# Altium integrated library interfaces.IntLib: 69 symbols
Pins are listed as number, name and electrical type; pins without a type are passive.

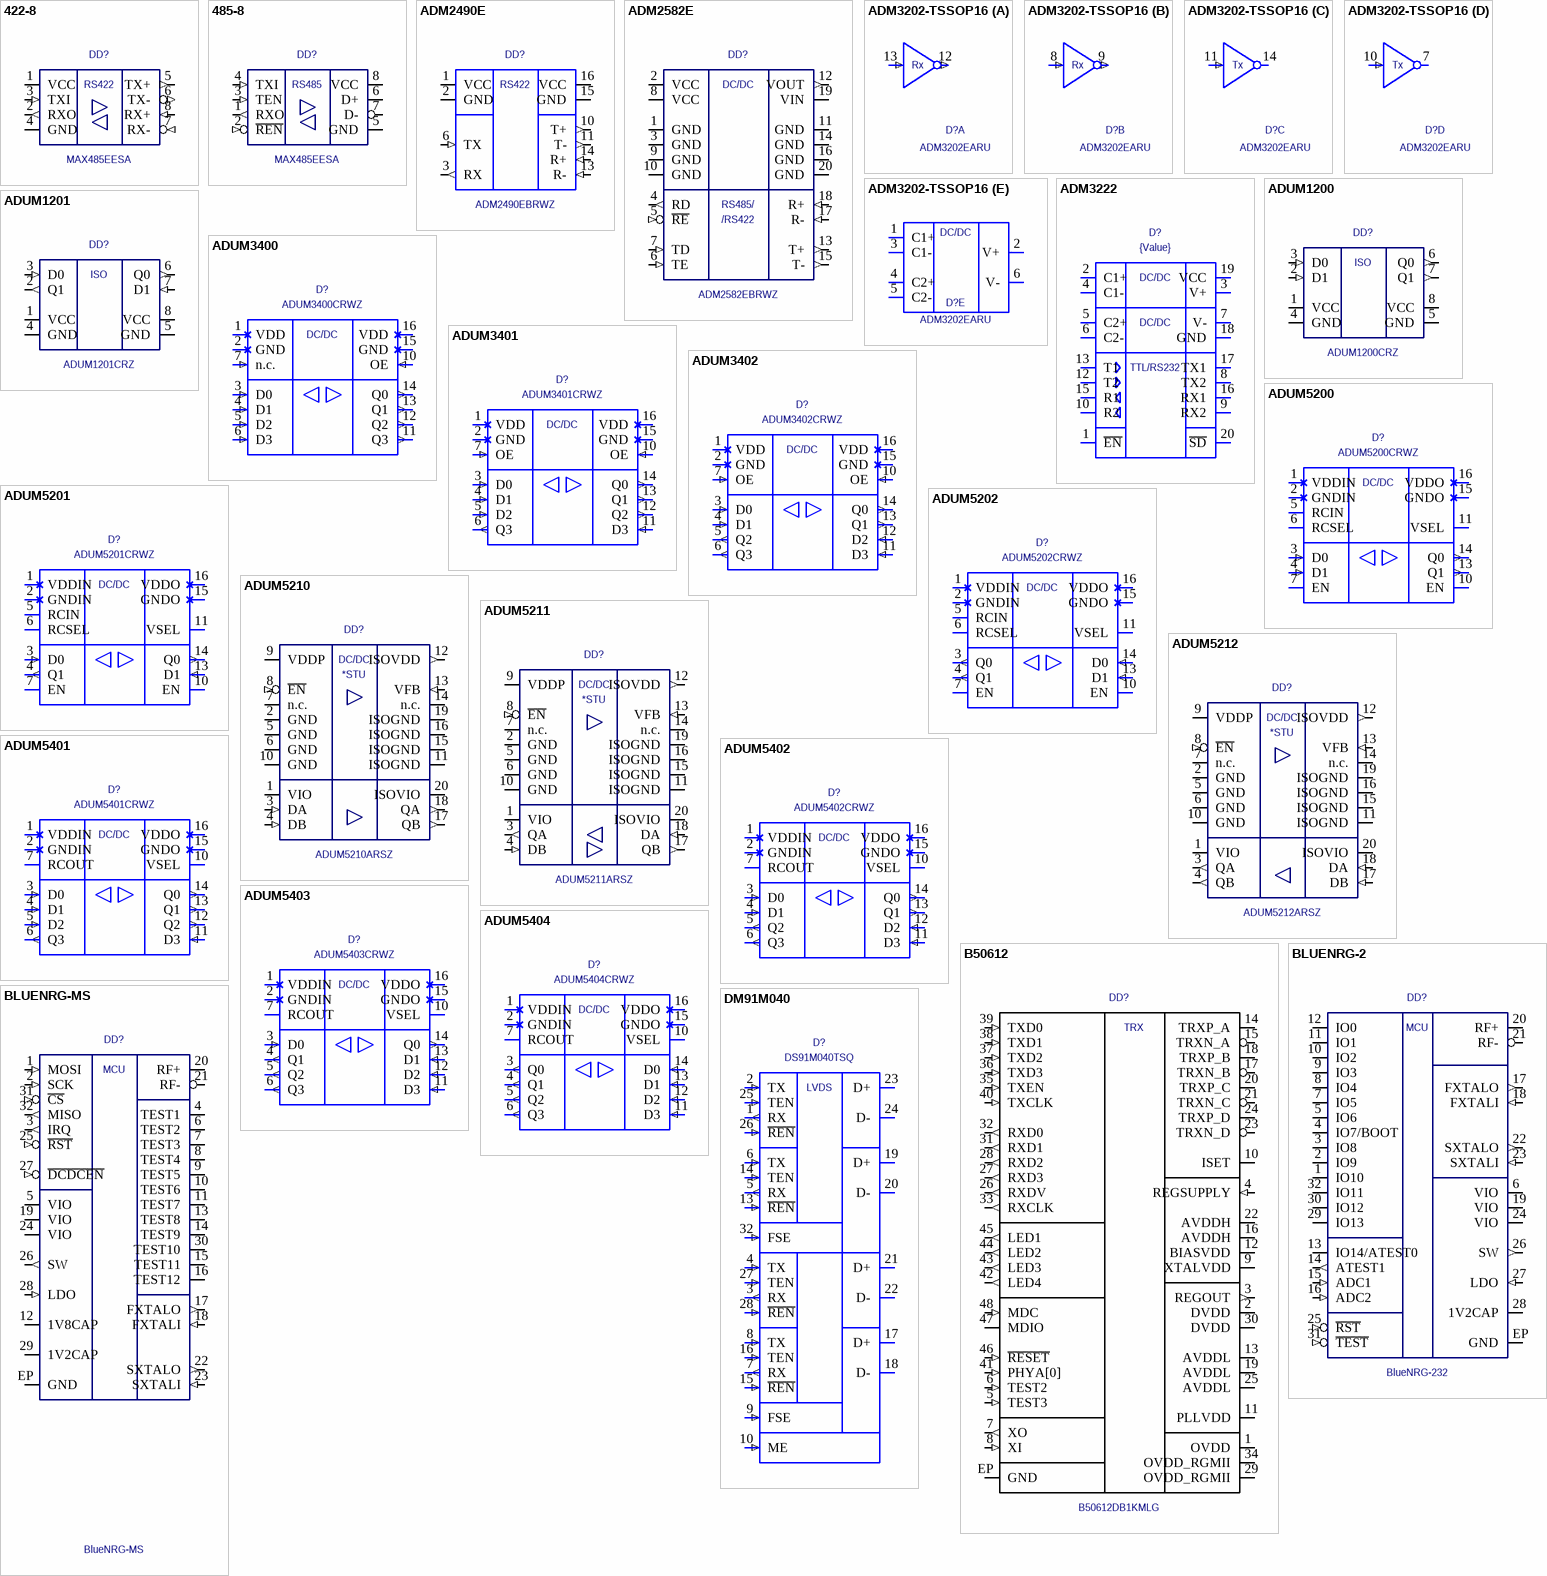
[diagram p0: symbols 422-8 to DM91M040]

## 422-8
designator DD?, comment MAX485EESA
RS422; Value: MAX485EESA
footprint SO8
footprint TSSOP8-4MM (0.65mm pitch)
pins: 1 VCC (power), 2 RXO (out), 3 TXI (in), 4 GND (power), 5 TX+ (out), 6 TX- (out), 7 RX- (in), 8 RX+ (in)

## 485-8
designator DD?, comment MAX485EESA
RS485; Value: MAX485EESA
footprint SO8
footprint TSSOP8-4MM (0.65mm pitch)
pins: 1 RXO (out), 2 ~{REN} (in), 3 TEN (in), 4 TXI (in), 5 GND (power), 6 D+ (io), 7 D- (io), 8 VCC (power)

## ADM2490E
designator DD?, comment ADM2490EBRWZ
ADM2490E; Value: ADM2490EBRWZ
footprint SO16W
pins: 1 VCC (power), 2 GND (power), 3 RX (out), 4 hidden, 5 hidden, 6 TX (in), 7 hidden, 8 hidden, 9 hidden, 10 T+ (out), 11 T- (out), 12 hidden, 13 R- (in), 14 R+ (in), 15 GND (power), 16 VCC (power)
text: RS422

## ADM2582E
designator DD?, comment ADM2582EBRWZ
RS485/422 isolated; Value: ADM2582EBRWZ
footprint SO20W
pins: 1 GND (power), 2 VCC (power), 3 GND (power), 4 RD (out), 5 ~{RE} (in), 6 TE (in), 7 TD (in), 8 VCC (power), 9 GND (power), 10 GND (power), 11 GND (power), 12 VOUT (out), 13 T+ (out), 14 GND (power), 15 T- (out), 16 GND (power), 17 R- (in), 18 R+ (in), 19 VIN (power), 20 GND (power)
text: DC/DC; RS485/; /RS422

## ADM3202-TSSOP16
designator D?  value ADM3202EARU  (hidden comment: ADM3202-TSSOP16)
footprint TSSOP16
pins on every part: 15 GND (power) hidden, 16 VCC (power) hidden
part A pins: 12 ROUT (out), 13 RIN (in)
part B pins: 8 RIN (in), 9 ROUT (out)
part C pins: 11 TIN (in), 14 TOUT (out)
part D pins: 7 TOUT (out), 10 TIN (in)
part E pins: 1 C1+ (io), 2 V+ (io), 3 C1- (io), 4 C2+ (io), 5 C2- (io), 6 V- (io)
part A text: Rx
part B text: Rx
part C text: Tx
part D text: Tx
part E text: DC/DC

## ADM3222
designator D?  value {Value}  (hidden comment: ADM3222)
footprint TSSOP20
pins: 1 ~{EN}, 2 C1+, 3 V+, 4 C1-, 5 C2+, 6 C2-, 7 V-, 8 TX2, 9 RX2, 10 R2, 11 hidden, 12 T2, 13 T1, 14 hidden, 15 R1, 16 RX1, 17 TX1, 18 GND, 19 VCC, 20 ~{SD}
text: DC/DC; TTL/RS232

## ADUM1200
designator DD?, comment ADUM1200CRZ
ADUM1200; Value: ADUM1200CRZ
footprint SO8
pins: 1 VCC (power), 2 D1 (in), 3 D0 (in), 4 GND (power), 5 GND (power), 6 Q0 (out), 7 Q1 (out), 8 VCC (power)
text: ISO

## ADUM1201
designator DD?, comment ADUM1201CRZ
ADUM1201; Value: ADUM1201CRZ
footprint SO8
pins: 1 VCC (power), 2 Q1 (out), 3 D0 (in), 4 GND (power), 5 GND (power), 6 Q0 (out), 7 D1 (in), 8 VCC (power)
text: ISO

## ADUM3400
designator D?  value ADUM3400CRWZ  (hidden comment: ADUM3400)
footprint SO16W
pins: 1 VDD (power), 2 GND (power), 3 D0 (in), 4 D1 (in), 5 D2 (in), 6 D3 (in), 7 n.c. (in), 8 hidden, 9 hidden, 10 OE (in), 11 Q3 (out), 12 Q2 (out), 13 Q1 (out), 14 Q0 (out), 15 GND (power), 16 VDD (power)
text: DC/DC

## ADUM3401
designator D?  value ADUM3401CRWZ  (hidden comment: ADUM3401)
footprint SO16W
pins: 1 VDD (power), 2 GND (power), 3 D0 (in), 4 D1 (in), 5 D2 (in), 6 Q3 (out), 7 OE (in), 8 hidden, 9 hidden, 10 OE (in), 11 D3 (in), 12 Q2 (out), 13 Q1 (out), 14 Q0 (out), 15 GND (power), 16 VDD (power)
text: DC/DC

## ADUM3402
designator D?  value ADUM3402CRWZ  (hidden comment: ADUM3402)
footprint SO16W
pins: 1 VDD (power), 2 GND (power), 3 D0 (in), 4 D1 (in), 5 Q2 (out), 6 Q3 (out), 7 OE (in), 8 hidden, 9 hidden, 10 OE (in), 11 D3 (in), 12 D2 (in), 13 Q1 (out), 14 Q0 (out), 15 GND (power), 16 VDD (power)
text: DC/DC

## ADUM5200
designator D?  value ADUM5200CRWZ  (hidden comment: ADUM5200)
footprint SO16W
pins: 1 VDDIN (power), 2 GNDIN (power), 3 D0 (in), 4 D1 (in), 5 RCIN, 6 RCSEL, 7 EN, 8 hidden, 9 hidden, 10 EN, 11 VSEL, 12 hidden, 13 Q1 (out), 14 Q0 (out), 15 GNDO (power), 16 VDDO (power)
text: DC/DC

## ADUM5201
designator D?  value ADUM5201CRWZ  (hidden comment: ADUM5201)
footprint SO16W
pins: 1 VDDIN (power), 2 GNDIN (power), 3 D0 (in), 4 Q1 (out), 5 RCIN, 6 RCSEL, 7 EN, 8 hidden, 9 hidden, 10 EN, 11 VSEL, 12 hidden, 13 D1 (in), 14 Q0 (out), 15 GNDO (power), 16 VDDO (power)
text: DC/DC

## ADUM5202
designator D?  value ADUM5202CRWZ  (hidden comment: ADUM5202)
footprint SO16W
pins: 1 VDDIN (power), 2 GNDIN (power), 3 Q0 (out), 4 Q1 (out), 5 RCIN, 6 RCSEL, 7 EN, 8 hidden, 9 hidden, 10 EN, 11 VSEL, 12 hidden, 13 D1 (in), 14 D0 (in), 15 GNDO (power), 16 VDDO (power)
text: DC/DC

## ADUM5210
designator DD?, comment ADUM5210ARSZ
2ch isolator + DC/DC; Value: ADUM5210ARSZ
footprint TSSOP20-8MM
pins: 1 VIO (power), 2 GND (power), 3 DA (in), 4 DB (in), 5 GND (power), 6 GND (power), 7 n.c. (power), 8 ~{EN} (in), 9 VDDP (power), 10 GND (power), 11 ISOGND (power), 12 ISOVDD (out), 13 VFB (in), 14 n.c. (power), 15 ISOGND (power), 16 ISOGND (power), 17 QB (out), 18 QA (out), 19 ISOGND (power), 20 ISOVIO (power)
text: DC/DC; *STU

## ADUM5211
designator DD?, comment ADUM5211ARSZ
2ch isolator + DC/DC; Value: ADUM5211ARSZ
footprint TSSOP20-8MM
pins: 1 VIO (power), 2 GND (power), 3 QA (out), 4 DB (in), 5 GND (power), 6 GND (power), 7 n.c. (power), 8 ~{EN} (in), 9 VDDP (power), 10 GND (power), 11 ISOGND (power), 12 ISOVDD (out), 13 VFB (in), 14 n.c. (power), 15 ISOGND (power), 16 ISOGND (power), 17 QB (out), 18 DA (in), 19 ISOGND (power), 20 ISOVIO (power)
text: DC/DC; *STU

## ADUM5212
designator DD?, comment ADUM5212ARSZ
2ch isolator + DC/DC; Value: ADUM5212ARSZ
footprint TSSOP20-8MM
pins: 1 VIO (power), 2 GND (power), 3 QA (out), 4 QB (out), 5 GND (power), 6 GND (power), 7 n.c. (power), 8 ~{EN} (in), 9 VDDP (power), 10 GND (power), 11 ISOGND (power), 12 ISOVDD (out), 13 VFB (in), 14 n.c. (power), 15 ISOGND (power), 16 ISOGND (power), 17 DB (in), 18 DA (in), 19 ISOGND (power), 20 ISOVIO (power)
text: DC/DC; *STU

## ADUM5401
designator D?  value ADUM5401CRWZ  (hidden comment: ADUM5401)
footprint SO16W
pins: 1 VDDIN (power), 2 GNDIN (power), 3 D0 (in), 4 D1 (in), 5 D2 (in), 6 Q3 (out), 7 RCOUT, 8 hidden, 9 hidden, 10 VSEL, 11 D3 (in), 12 Q2 (out), 13 Q1 (out), 14 Q0 (out), 15 GNDO (power), 16 VDDO (power)
text: DC/DC

## ADUM5402
designator D?  value ADUM5402CRWZ  (hidden comment: ADUM5402)
footprint SO16W
pins: 1 VDDIN (power), 2 GNDIN (power), 3 D0 (in), 4 D1 (in), 5 Q2 (out), 6 Q3 (out), 7 RCOUT, 8 hidden, 9 hidden, 10 VSEL, 11 D3 (in), 12 D2 (in), 13 Q1 (out), 14 Q0 (out), 15 GNDO (power), 16 VDDO (power)
text: DC/DC

## ADUM5403
designator D?  value ADUM5403CRWZ  (hidden comment: ADUM5403)
footprint SO16W
pins: 1 VDDIN (power), 2 GNDIN (power), 3 D0 (in), 4 Q1 (out), 5 Q2 (out), 6 Q3 (out), 7 RCOUT, 8 hidden, 9 hidden, 10 VSEL, 11 D3 (in), 12 D2 (in), 13 D1 (in), 14 Q0 (out), 15 GNDO (power), 16 VDDO (power)
text: DC/DC

## ADUM5404
designator D?  value ADUM5404CRWZ  (hidden comment: ADUM5404)
footprint SO16W
pins: 1 VDDIN (power), 2 GNDIN (power), 3 Q0 (out), 4 Q1 (out), 5 Q2 (out), 6 Q3 (out), 7 RCOUT, 8 hidden, 9 hidden, 10 VSEL, 11 D3 (in), 12 D2 (in), 13 D1 (in), 14 D0 (in), 15 GNDO (power), 16 VDDO (power)
text: DC/DC

## B50612
designator DD?, comment B50612DB1KMLG
LAN 1Gb PHY; Value: B50612DB1KMLG
footprint MLF48-7MM
pins: 1 OVDD (power), 2 DVDD (power), 3 REGOUT (out), 4 REGSUPPLY (in), 5 TEST3 (in), 6 TEST2 (in), 7 XO (out), 8 XI (in), 9 XTALVDD (power), 10 ISET, 11 PLLVDD (power), 12 BIASVDD (power), 13 AVDDL (power), 14 TRXP_A (io), 15 TRXN_A (io), 16 AVDDH (power), 17 TRXN_B (io), 18 TRXP_B (io), 19 AVDDL (power), 20 TRXP_C (io), 21 TRXN_C (io), 22 AVDDH (power), 23 TRXN_D (io), 24 TRXP_D (io), 25 AVDDL (power), 26 RXDV (out), 27 RXD3 (out), 28 RXD2 (out), 29 OVDD_RGMII (power), 30 DVDD (power), 31 RXD1 (out), 32 RXD0 (out), 33 RXCLK (out), 34 OVDD_RGMII (power), 35 TXEN (in), 36 TXD3 (in), 37 TXD2 (in), 38 TXD1 (in), 39 TXD0 (in), 40 TXCLK (in), 41 PHYA[0] (in), 42 LED4 (out), 43 LED3 (out), 44 LED2 (out), 45 LED1 (out), 46 ~{RESET} (in), 47 MDIO (io), 48 MDC (in), EP GND (power)
text: TRX

## BLUENRG-2
designator DD?, comment BlueNRG-232
BT processor; Value: BlueNRG-232
footprint MLF32
pins: 1 IO10 (io), 2 IO9 (io), 3 IO8 (io), 4 IO7/BOOT (io), 5 IO6 (io), 6 VIO, 7 IO5 (io), 8 IO4 (io), 9 IO3 (io), 10 IO2 (io), 11 IO1 (io), 12 IO0 (io), 13 IO14/ATEST0 (io), 14 ATEST1 (out), 15 ADC1 (in), 16 ADC2 (in), 17 FXTALO (out), 18 FXTALI (in), 19 VIO, 20 RF+ (io), 21 RF- (io), 22 SXTALO (out), 23 SXTALI (in), 24 VIO, 25 ~{RST} (in), 26 SW (out), 27 LDO (in), 28 1V2CAP, 29 IO13 (io), 30 IO12 (io), 31 ~{TEST} (in), 32 IO11 (io), EP GND (power)
text: MCU

## BLUENRG-MS
designator DD?, comment BlueNRG-MS
BT processor; Value: BlueNRG-MS
footprint MLF32
pins: 1 MOSI (in), 2 SCK (in), 3 IRQ (out), 4 TEST1 (io), 5 VIO, 6 TEST2 (io), 7 TEST3 (io), 8 TEST4 (io), 9 TEST5 (io), 10 TEST6 (io), 11 TEST7 (io), 12 1V8CAP, 13 TEST8 (io), 14 TEST9 (io), 15 TEST11 (io), 16 TEST12 (io), 17 FXTALO (out), 18 FXTALI (in), 19 VIO, 20 RF+ (io), 21 RF- (io), 22 SXTALO (out), 23 SXTALI (in), 24 VIO, 25 ~{RST} (in), 26 SW (out), 27 ~{DCDCEN} (in), 28 LDO (in), 29 1V2CAP, 30 TEST10 (io), 31 ~{CS} (in), 32 MISO (out), EP GND (power)
text: MCU

## DM91M040
designator D?  value DS91M040TSQ  (hidden comment: DM91M040)
footprint MLF32
pins: 1 RX (out), 2 TX (in), 3 RX (out), 4 TX (in), 5 RX (out), 6 TX (in), 7 RX (out), 8 TX (in), 9 FSE (in), 10 ME (in), 11 VCC (power) hidden, 12 VCC (power) hidden, 13 ~{REN} (in), 14 TEN (in), 15 ~{REN} (in), 16 TEN (in), 17 D+ (io), 18 D- (io), 19 D+ (io), 20 D- (io), 21 D+ (io), 22 D- (io), 23 D+ (io), 24 D- (io), 25 TEN (in), 26 ~{REN} (in), 27 TEN (in), 28 ~{REN} (in), 29 VCC (power) hidden, 30 VCC (power) hidden, 31 GND (power) hidden, 32 FSE (in), EP GND (power) hidden
text: LVDS

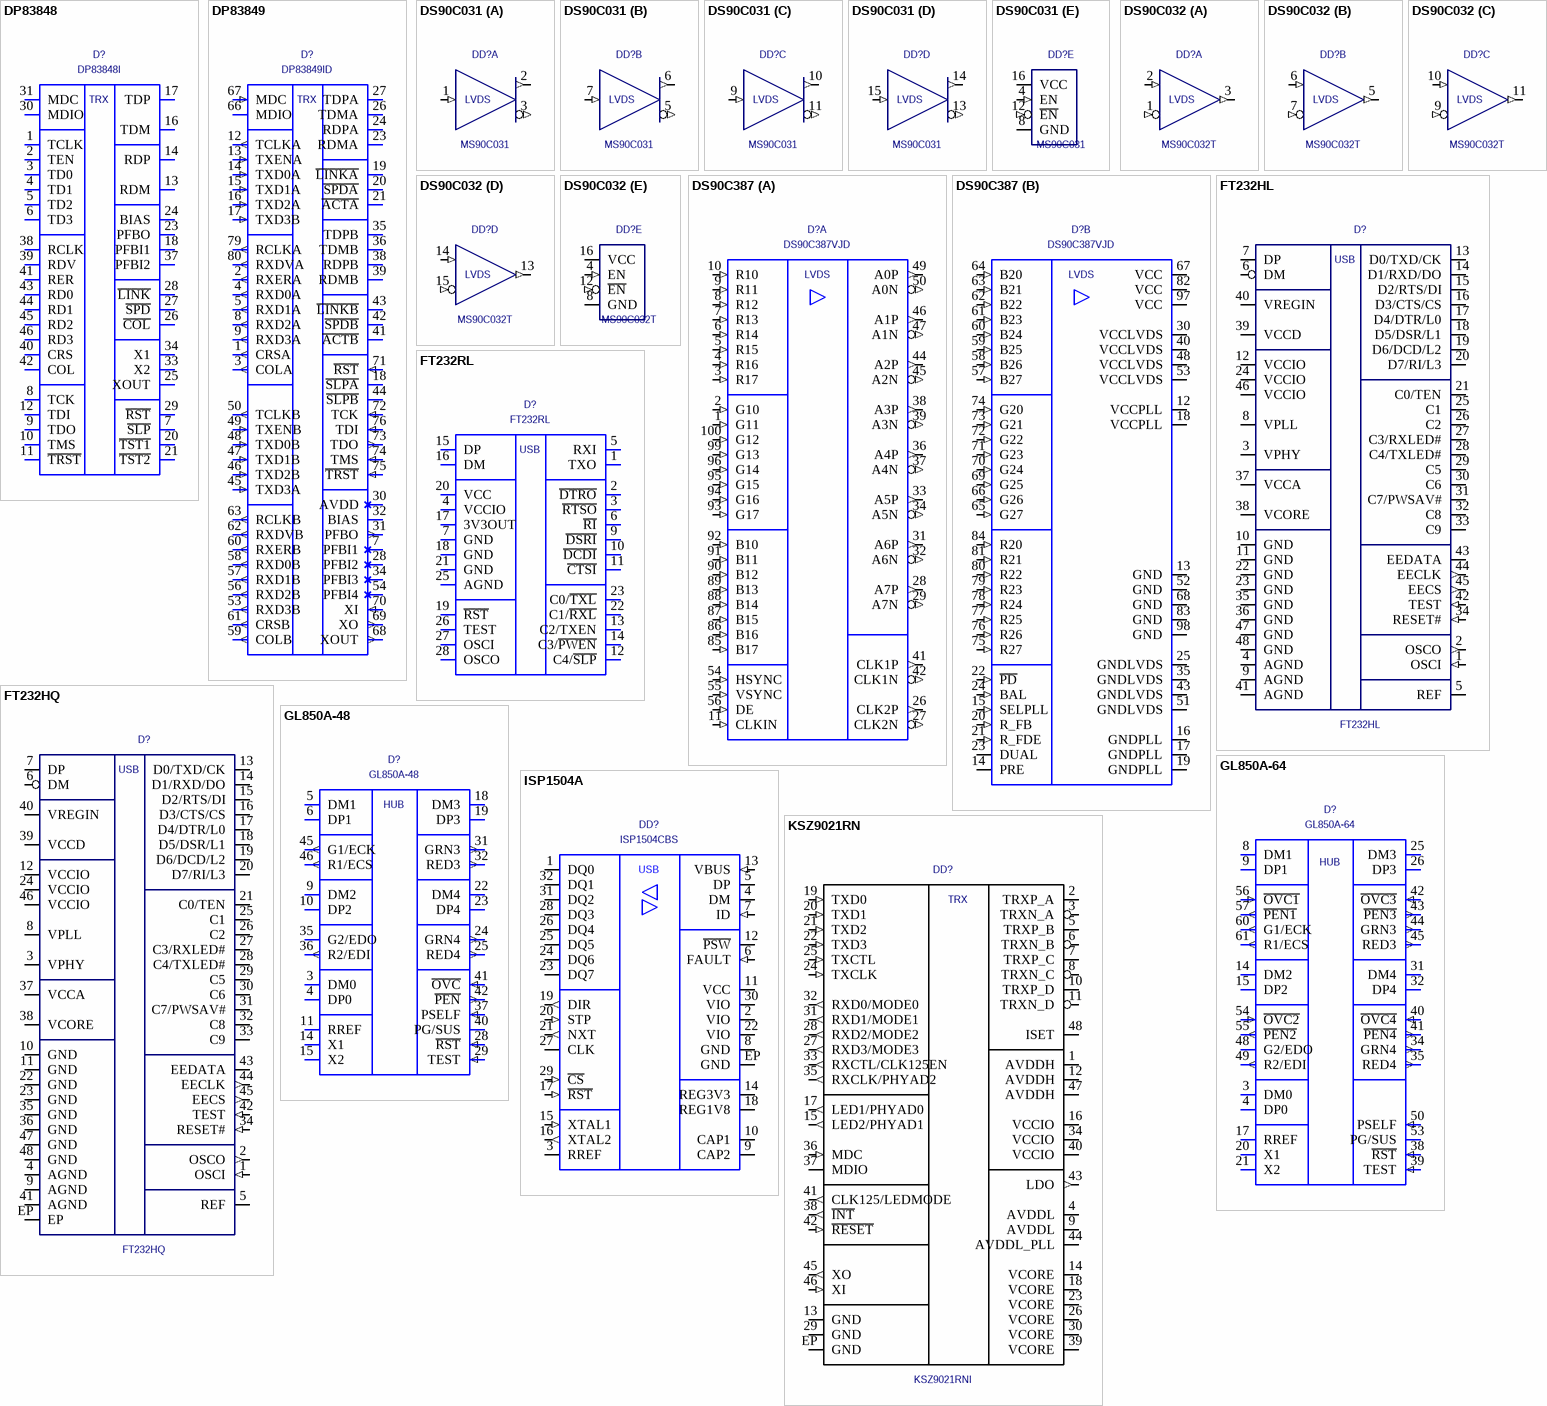
[diagram p1: symbols DP83848 to KSZ9021RN]

## DP83848
designator D?  value DP83848I  (hidden comment: DP83848)
footprint LQFP48
pins: 1 TCLK, 2 TEN, 3 TD0, 4 TD1, 5 TD2, 6 TD3, 7 ~{SLP}, 8 TCK, 9 TDO, 10 TMS, 11 ~{TRST}, 12 TDI, 13 RDM, 14 RDP, 15 GND (power) hidden, 16 TDM, 17 TDP, 18 PFBI1, 19 GND (power) hidden, 20 ~{TST1}, 21 ~{TST2}, 22 VCC (power) hidden, 23 PFBO, 24 BIAS, 25 XOUT, 26 ~{COL}, 27 ~{SPD}, 28 ~{LINK}, 29 ~{RST}, 30 MDIO, 31 MDC, 32 VCC (power) hidden, 33 X2, 34 X1, 35 GND (power) hidden, 36 GND (power) hidden, 37 PFBI2, 38 RCLK, 39 RDV, 40 CRS, 41 RER, 42 COL, 43 RD0, 44 RD1, 45 RD2, 46 RD3, 47 GND (power) hidden, 48 VCC (power) hidden
text: TRX

## DP83849
designator D?  value DP83849ID  (hidden comment: DP83849)
footprint TQFP80
pins: 1 CRSA (out), 2 RXERA (out), 3 COLA (out), 4 RXD0A (out), 5 RXD1A (out), 6 GND (power) hidden, 7 PFBI1 (power), 8 RXD2A (out), 9 RXD3A (out), 10 GND (power) hidden, 11 VCC (power) hidden, 12 TCLKA (out), 13 TXENA (in), 14 TXD0A (in), 15 TXD1A (in), 16 TXD2A (in), 17 TXD3B (in), 18 ~{SLPA} (io), 19 ~{LINKA} (io), 20 ~{SPDA} (io), 21 ~{ACTA} (io), 22 GND (power) hidden, 23 RDMA, 24 RDPA, 25 GND (power) hidden, 26 TDMA, 27 TDPA, 28 PFBI2 (power), 29 GND (power) hidden, 30 AVDD (power), 31 PFBO (out), 32 BIAS, 33 GND (power) hidden, 34 PFBI3 (power), 35 TDPB, 36 TDMB, 37 GND (power) hidden, 38 RDPB, 39 RDMB, 40 GND (power) hidden, 41 ~{ACTB} (io), 42 ~{SPDB} (io), 43 ~{LINKB} (io), 44 ~{SLPB} (io), 45 TXD3A (in), 46 TXD2B (in), 47 TXD1B (in), 48 TXD0B (in), 49 TXENB (in), 50 TCLKB (out), 51 VCC (power) hidden, 52 GND (power) hidden, 53 RXD3B (out), 54 PFBI4 (power), 55 GND (power) hidden, 56 RXD2B (out), 57 RXD1B (out), 58 RXD0B (out), 59 COLB (out), 60 RXERB (out), 61 CRSB (out), 62 RXDVB (out), 63 RCLKB (out), 64 GND (power) hidden, 65 VCC (power) hidden, 66 MDIO (io), 67 MDC (in), 68 XOUT (out), 69 XO (out), 70 XI (in), 71 ~{RST} (in), 72 TCK (in), 73 TDO (out), 74 TMS (in), 75 ~{TRST} (in), 76 TDI (in), 77 GND (power) hidden, 78 VCC (power) hidden, 79 RCLKA (out), 80 RXDVA (out)
text: TRX

## DS90C031
designator DD?, comment MS90C031
4xLVDS TX; Value: MS90C031
footprint SO16
footprint TSSOP16 (0.65mm pitch)
part A pins: 1 TX (in), 2 A (out), 3 B (out)
part B pins: 5 B (out), 6 A (out), 7 TX (in)
part C pins: 9 TX (in), 10 A (out), 11 B (out)
part D pins: 13 B (out), 14 A (out), 15 TX (in)
part E pins: 4 EN (in), 8 GND (power), 12 ~{EN} (in), 16 VCC (power)
part A text: LVDS
part B text: LVDS
part C text: LVDS
part D text: LVDS

## DS90C032
designator DD?, comment MS90C032T
4xLVDS RX; Value: MS90C032T
footprint SO16
footprint TSSOP16 (0.65mm pitch)
part A pins: 1 B (in), 2 A (in), 3 RX (out)
part B pins: 5 RX (out), 6 A (in), 7 B (in)
part C pins: 9 B (in), 10 A (in), 11 RX (out)
part D pins: 13 RX (out), 14 A (in), 15 B (in)
part E pins: 4 EN (in), 8 GND (power), 12 ~{EN} (in), 16 VCC (power)
part A text: LVDS
part B text: LVDS
part C text: LVDS
part D text: LVDS

## DS90C387
designator D?, comment DS90C387VJD
LVDS video transmitter; Value: DS90C387VJD
footprint TQFP100
part A pins: 1 G11 (in) "???", 2 G10 (in), 3 R17 (in), 4 R16 (in), 5 R15 (in), 6 R14 (in), 7 R13 (in), 8 R12 (in), 9 R11 (in), 10 R10 (in), 11 CLKIN (in), 26 CLK2P (out), 27 CLK2N (out), 28 A7P (out), 29 A7N (out), 31 A6P (out), 32 A6N (out), 33 A5P (out), 34 A5N (out), 36 A4P (out), 37 A4N (out), 38 A3P (out), 39 A3N (out), 41 CLK1P (out), 42 CLK1N (out), 44 A2P (out), 45 A2N (out), 46 A1P (out), 47 A1N (out), 49 A0P (out), 50 A0N (out), 54 HSYNC (in), 55 VSYNC (in), 56 DE (in), 85 B17 (in), 86 B16 (in), 87 B15 (in), 88 B14 (in), 89 B13 (in), 90 B12 (in), 91 B11 (in), 92 B10 (in), 93 G17 (in), 94 G16 (in), 95 G15 (in), 96 G14 (in), 99 G13 (in), 100 G12 (in)
part B pins: 12 VCCPLL (power) "+3.3V", 13 GND (power), 14 PRE "Pull-up resistor for preemphasis control", 15 SELPLL (in) "'=VCC", 16 GNDPLL (power), 17 GNDPLL (power), 18 VCCPLL (power) "+3.3V", 19 GNDPLL (power), 20 R_FB (in) "CLKIN polarity selector", 21 R_FDE (in) "DE polarity selector", 22 ~{PD} (in) "Power down (low)", 23 DUAL "0, 1 or ?", 24 BAL (in) "DC balanced code selector", 25 GNDLVDS (power), 30 VCCLVDS (power) "+3.3V", 35 GNDLVDS (power), 40 VCCLVDS (power) "+3.3V", 43 GNDLVDS (power), 48 VCCLVDS (power) "+3.3V", 51 GNDLVDS (power), 52 GND (power), 53 VCCLVDS (power) "+3.3V", 57 B27 (in), 58 B26 (in), 59 B25 (in), 60 B24 (in), 61 B23 (in), 62 B22 (in), 63 B21 (in), 64 B20 (in), 65 G27 (in), 66 G26 (in), 67 VCC (power) "+3.3V", 68 GND (power), 69 G25 (in), 70 G24 (in), 71 G23 (in), 72 G22 (in), 73 G21 (in), 74 G20 (in), 75 R27 (in), 76 R26 (in), 77 R25 (in), 78 R24 (in), 79 R23 (in), 80 R22 (in), 81 R21 (in), 82 VCC (power) "+3.3V", 83 GND (power), 84 R20 (in), 97 VCC (power) "+3.3V", 98 GND (power)
part A text: LVDS
part B text: LVDS

## FT232HL
designator D?, comment value FT232HL  (hidden comment: FT232RL)
FT232HL
footprint LQFP48 (0.5 mm pitch)
pins: 1 OSCI (in), 2 OSCO (out), 3 VPHY (power), 4 AGND (power), 5 REF, 6 DM (io), 7 DP (io), 8 VPLL (power), 9 AGND (power), 10 GND (power), 11 GND (power), 12 VCCIO (power), 13 D0/TXD/CK (io), 14 D1/RXD/DO (io), 15 D2/RTS/DI (io), 16 D3/CTS/CS (io), 17 D4/DTR/L0 (io), 18 D5/DSR/L1 (io), 19 D6/DCD/L2 (io), 20 D7/RI/L3 (io), 21 C0/TEN (io), 22 GND (power), 23 GND (power), 24 VCCIO (power), 25 C1 (io), 26 C2 (io), 27 C3/RXLED# (io), 28 C4/TXLED# (io), 29 C5 (io), 30 C6 (io), 31 C7/PWSAV# (io), 32 C8 (io), 33 C9 (io), 34 RESET# (in), 35 GND (power), 36 GND (power), 37 VCCA (power), 38 VCORE (power), 39 VCCD (power), 40 VREGIN (power), 41 AGND (power), 42 TEST (in), 43 EEDATA (io), 44 EECLK (out), 45 EECS (out), 46 VCCIO (power), 47 GND (power), 48 GND (power)
text: USB

## FT232HQ
designator D?
Value: FT232HQ
footprint MLF48-8MM
pins: 1 OSCI (in), 2 OSCO (out), 3 VPHY (power), 4 AGND (power), 5 REF, 6 DM (io), 7 DP (io), 8 VPLL (power), 9 AGND (power), 10 GND (power), 11 GND (power), 12 VCCIO (power), 13 D0/TXD/CK (io), 14 D1/RXD/DO (io), 15 D2/RTS/DI (io), 16 D3/CTS/CS (io), 17 D4/DTR/L0 (io), 18 D5/DSR/L1 (io), 19 D6/DCD/L2 (io), 20 D7/RI/L3 (io), 21 C0/TEN (io), 22 GND (power), 23 GND (power), 24 VCCIO (power), 25 C1 (io), 26 C2 (io), 27 C3/RXLED# (io), 28 C4/TXLED# (io), 29 C5 (io), 30 C6 (io), 31 C7/PWSAV# (io), 32 C8 (io), 33 C9 (io), 34 RESET# (in), 35 GND (power), 36 GND (power), 37 VCCA (power), 38 VCORE (power), 39 VCCD (power), 40 VREGIN (power), 41 AGND (power), 42 TEST (in), 43 EEDATA (io), 44 EECLK (out), 45 EECS (out), 46 VCCIO (power), 47 GND (power), 48 GND (power), EP (power)
text: USB

## FT232RL
designator D?
Value: FT232RL
footprint TSSOP28
pins: 1 TXO, 2 ~{DTRO}, 3 ~{RTSO}, 4 VCCIO, 5 RXI, 6 ~{RI}, 7 GND, 8 hidden, 9 ~{DSRI}, 10 ~{DCDI}, 11 ~{CTSI}, 12 C4/~{SLP}, 13 C2/TXEN, 14 C3/~{PWEN}, 15 DP, 16 DM, 17 3V3OUT, 18 GND, 19 ~{RST}, 20 VCC, 21 GND, 22 C1/~{RXL}, 23 C0/~{TXL}, 24 hidden, 25 AGND, 26 TEST, 27 OSCI, 28 OSCO
text: USB

## GL850A-48
designator D?
Value: GL850A-48
footprint LQFP48
pins: 1 VCC (power) hidden, 2 GND (power) hidden, 3 DM0 (io), 4 DP0 (io), 5 DM1 (io), 6 DP1 (io), 7 VCC (power) hidden, 8 GND (power) hidden, 9 DM2 (io), 10 DP2 (io), 11 RREF, 12 VCC (power) hidden, 13 GND (power) hidden, 14 X1, 15 X2, 16 VCC (power) hidden, 17 GND (power) hidden, 18 DM3 (io), 19 DP3 (io), 20 VCC (power) hidden, 21 GND (power) hidden, 22 DM4 (io), 23 DP4 (io), 24 GRN4 (out), 25 RED4 (out), 26 GND (power) hidden, 27 VCC (power) hidden, 28 ~{RST} (in), 29 TEST (in), 30 hidden, 31 GRN3 (out), 32 RED3 (out), 33 GND (power) hidden, 34 VCC (power) hidden, 35 G2/EDO (io), 36 R2/EDI (out), 37 PSELF (in), 38 GND (power) hidden, 39 VCC (power) hidden, 40 PG/SUS (io), 41 ~{OVC} (in), 42 ~{PEN} (out), 43 GND (power) hidden, 44 VCC (power) hidden, 45 G1/ECK (out), 46 R1/ECS (out), 47 GND (power) hidden, 48 VCC (power) hidden
text: HUB

## GL850A-64
designator D?
Value: GL850A-64
footprint LQFP64
pins: 1 GND (power) hidden, 2 hidden, 3 DM0 (io), 4 DP0 (io), 5 hidden, 6 hidden, 7 hidden, 8 DM1 (io), 9 DP1 (io), 10 hidden, 11 VCC (power) hidden, 12 GND (power) hidden, 13 hidden, 14 DM2 (io), 15 DP2 (io), 16 hidden, 17 RREF, 18 VCC (power) hidden, 19 GND (power) hidden, 20 X1, 21 X2, 22 VCC (power) hidden, 23 GND (power) hidden, 24 hidden, 25 DM3 (io), 26 DP3 (io), 27 hidden, 28 VCC (power) hidden, 29 GND (power) hidden, 30 hidden, 31 DM4 (io), 32 DP4 (io), 33 hidden, 34 GRN4 (out), 35 RED4 (out), 36 GND (power) hidden, 37 VCC (power) hidden, 38 ~{RST} (in), 39 TEST (in), 40 ~{OVC4} (in), 41 ~{PEN4} (out), 42 ~{OVC3} (in), 43 ~{PEN3} (out), 44 GRN3 (out), 45 RED3 (out), 46 GND (power) hidden, 47 VCC (power) hidden, 48 G2/EDO (io), 49 R2/EDI (out), 50 PSELF (in), 51 GND (power) hidden, 52 VCC (power) hidden, 53 PG/SUS (io), 54 ~{OVC2} (in), 55 ~{PEN2} (out), 56 ~{OVC1} (in), 57 ~{PEN1} (out), 58 GND (power) hidden, 59 VCC (power) hidden, 60 G1/ECK (out), 61 R1/ECS (out), 62 GND (power) hidden, 63 VCC (power) hidden, 64 VCC (power) hidden
text: HUB

## ISP1504A
designator DD?, comment ISP1504CBS
Value: ISP1504CBS
footprint MLF32
pins: 1 DQ0 (io), 2 VIO (power), 3 RREF, 4 DM (io), 5 DP (io), 6 FAULT (in), 7 ID (in), 8 GND (power), 9 CAP2, 10 CAP1, 11 VCC (power), 12 ~{PSW} (oc), 13 VBUS (in), 14 REG3V3, 15 XTAL1 (in), 16 XTAL2 (out), 17 ~{RST} (in), 18 REG1V8, 19 DIR (out), 20 STP (in), 21 NXT (out), 22 VIO (power), 23 DQ7 (io), 24 DQ6 (io), 25 DQ5 (io), 26 DQ4 (io), 27 CLK (io), 28 DQ3 (io), 29 ~{CS} (in), 30 VIO (power), 31 DQ2 (io), 32 DQ1 (io), EP GND (power)
text: USB

## KSZ9021RN
designator DD?, comment KSZ9021RNI
LAN 1Gb PHY; Value: KSZ9021RNI
footprint MLF48-7MM
pins: 1 AVDDH (power), 2 TRXP_A (io), 3 TRXN_A (io), 4 AVDDL (power), 5 TRXP_B (io), 6 TRXN_B (io), 7 TRXP_C (io), 8 TRXN_C (io), 9 AVDDL (power), 10 TRXP_D (io), 11 TRXN_D (io), 12 AVDDH (power), 13 GND (power), 14 VCORE (power), 15 LED2/PHYAD1 (out), 16 VCCIO (power), 17 LED1/PHYAD0 (out), 18 VCORE (power), 19 TXD0 (in), 20 TXD1 (in), 21 TXD2 (in), 22 TXD3 (in), 23 VCORE (power), 24 TXCLK (in), 25 TXCTL (in), 26 VCORE (power), 27 RXD3/MODE3 (out), 28 RXD2/MODE2 (out), 29 GND (power), 30 VCORE (power), 31 RXD1/MODE1 (out), 32 RXD0/MODE0 (out), 33 RXCTL/CLK125EN (out), 34 VCCIO (power), 35 RXCLK/PHYAD2 (out), 36 MDC (in), 37 MDIO (io), 38 ~{INT} (out), 39 VCORE (power), 40 VCCIO (power), 41 CLK125/LEDMODE (out), 42 ~{RESET} (in), 43 LDO (out), 44 AVDDL_PLL (power), 45 XO (out), 46 XI (in), 47 AVDDH (power), 48 ISET, EP GND (power)
text: TRX

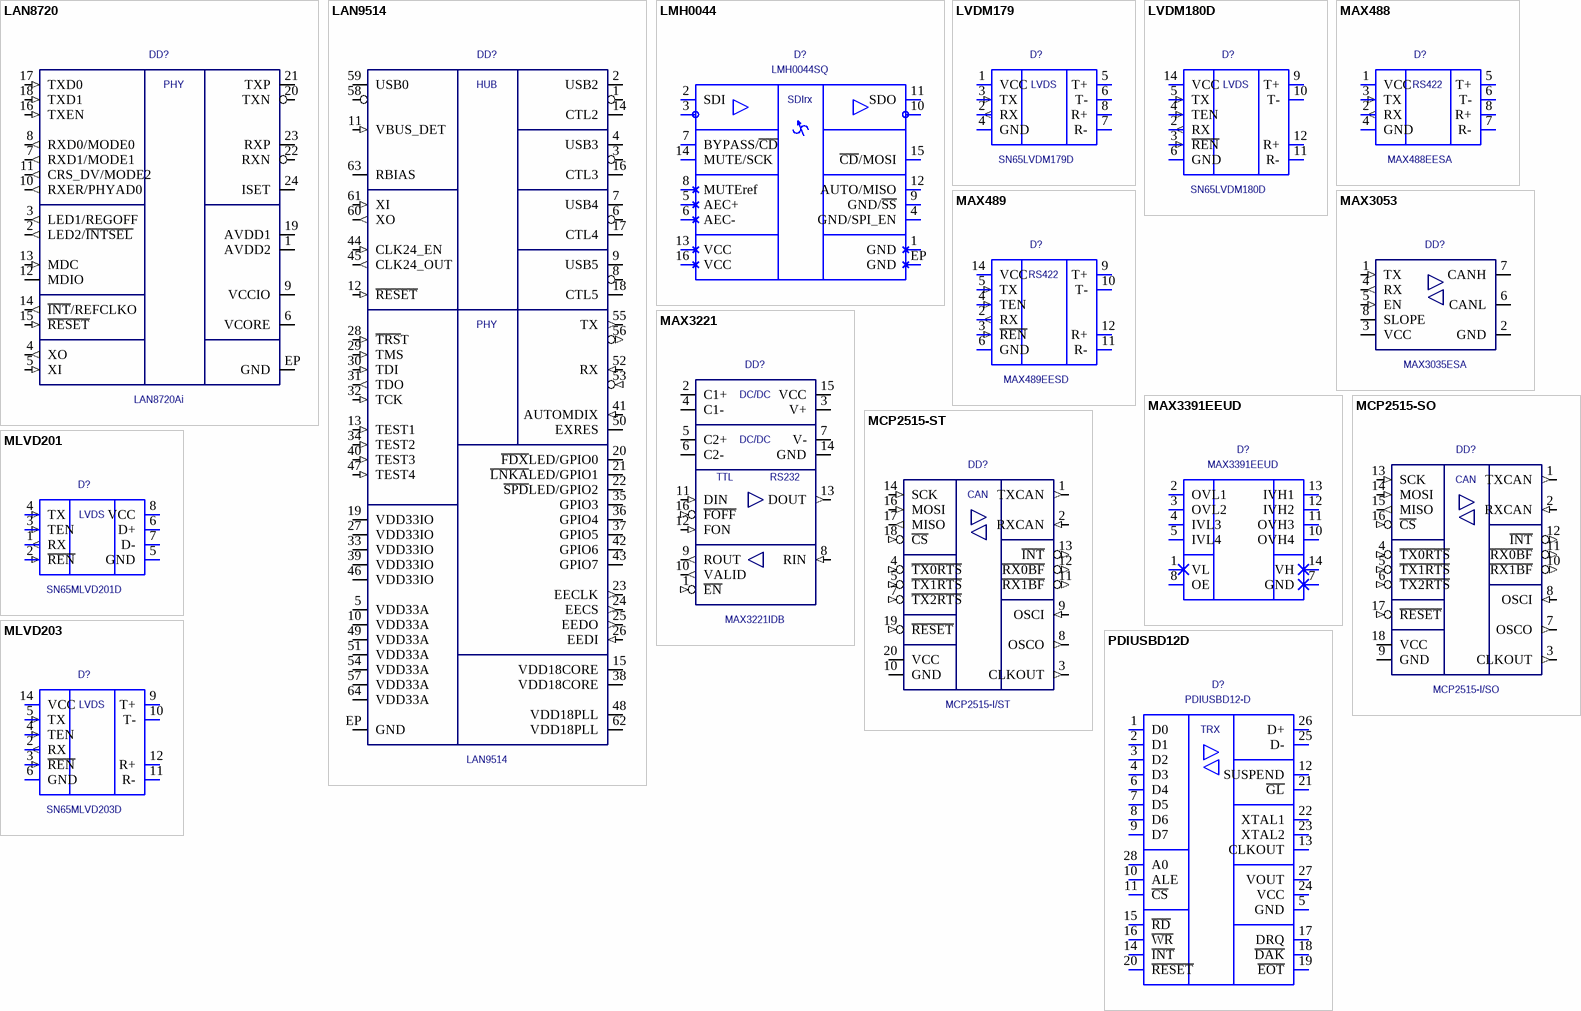
[diagram p2: symbols LAN8720 to PDIUSBD12D]

## LAN8720
designator DD?, comment LAN8720Ai
LAN 10/100 PHY; Value: LAN8720Ai
footprint MLF24
pins: 1 AVDD2 (power), 2 LED2/~{INTSEL} (out), 3 LED1/REGOFF (out), 4 XO (out), 5 XI (in), 6 VCORE (power), 7 RXD1/MODE1 (out), 8 RXD0/MODE0 (out), 9 VCCIO (power), 10 RXER/PHYAD0 (out), 11 CRS_DV/MODE2 (out), 12 MDIO (io), 13 MDC (in), 14 ~{INT}/REFCLKO (out), 15 ~{RESET} (in), 16 TXEN (in), 17 TXD0 (in), 18 TXD1 (in), 19 AVDD1 (power), 20 TXN (io), 21 TXP (io), 22 RXN (io), 23 RXP (io), 24 ISET, EP GND (power)
text: PHY

## LAN9514
designator DD?
USB hub + Ethernet; Value: LAN9514
footprint MLF64
pins: 1 USBDM2 (io), 2 USB2 (io), 3 USBDM3 (io), 4 USB3 (io), 5 VDD33A (power), 6 USBDM4 (io), 7 USB4 (io), 8 USBDM5 (io), 9 USB5 (io), 10 VDD33A (power), 11 VBUS_DET (in), 12 ~{RESET} (in), 13 TEST1 (in), 14 CTL2 (io), 15 VDD18CORE (power), 16 CTL3 (io), 17 CTL4 (io), 18 CTL5 (io), 19 VDD33IO (power), 20 ~{FDX}LED/GPIO0 (io), 21 ~{LNKA}LED/GPIO1 (io), 22 ~{SPD}LED/GPIO2 (io), 23 EECLK (out), 24 EECS (out), 25 EEDO (out), 26 EEDI (in), 27 VDD33IO (power), 28 ~{TRS}T (in), 29 TMS (in), 30 TDI (in), 31 TDO (out), 32 TCK (in), 33 VDD33IO (power), 34 TEST2 (in), 35 GPIO3 (io), 36 GPIO4 (io), 37 GPIO5 (io), 38 VDD18CORE (power), 39 VDD33IO (power), 40 TEST3 (in), 41 AUTOMDIX (in), 42 GPIO6 (io), 43 GPIO7 (io), 44 CLK24_EN (in), 45 CLK24_OUT (out), 46 VDD33IO (power), 47 TEST4 (in), 48 VDD18PLL (power), 49 VDD33A (power), 50 EXRES, 51 VDD33A (power), 52 RX (in), 53 RXN (in), 54 VDD33A (power), 55 TX (out), 56 TXN (out), 57 VDD33A (power), 58 USBDM0 (io), 59 USB0 (io), 60 XO (out), 61 XI (in), 62 VDD18PLL (power), 63 RBIAS, 64 VDD33A (power), EP GND (power)
text: HUB; PHY

## LMH0044
designator D?  value LMH0044SQ  (hidden comment: LMH0044)
footprint QFN16-065
pins: 1 GND, 2 SDI, 3 SDI, 4 GND/SPI_EN, 5 AEC+, 6 AEC-, 7 BYPASS/~{CD}, 8 MUTEref, 9 GND/~{SS}, 10 ~{SDO}, 11 SDO, 12 AUTO/MISO, 13 VCC, 14 MUTE/SCK, 15 ~{CD}/MOSI, 16 VCC, EP GND
text: SDIrx

## LVDM179
designator D?  value SN65LVDM179D  (hidden comment: LVDM179)
footprint SO8
pins: 1 VCC (power), 2 RX (out), 3 TX (in), 4 GND (power), 5 T+, 6 T-, 7 R-, 8 R+
text: LVDS

## LVDM180D
designator D?  value SN65LVDM180D  (hidden comment: LVDM180D)
footprint SO14
pins: 1 hidden, 2 RX (out), 3 ~{REN} (in), 4 TEN (in), 5 TX (in), 6 GND (power), 7 GND (power), 8 hidden, 9 T+, 10 T-, 11 R-, 12 R+, 13 VCC (power), 14 VCC (power)
text: LVDS

## MAX488
designator D?  value MAX488EESA  (hidden comment: MAX488)
footprint SO8
pins: 1 VCC (power), 2 RX (out), 3 TX (in), 4 GND (power), 5 T+, 6 T-, 7 R-, 8 R+
text: RS422

## MAX489
designator D?  value MAX489EESD  (hidden comment: MAX489)
footprint SO14
pins: 1 hidden, 2 RX (out), 3 ~{REN} (in), 4 TEN (in), 5 TX (in), 6 GND (power), 7 hidden, 8 hidden, 9 T+, 10 T-, 11 R-, 12 R+, 13 hidden, 14 VCC (power)
text: RS422

## MAX3053
designator DD?, comment MAX3035ESA
CAN tranceiver; Value: MAX3035ESA
footprint SO8
pins: 1 TX (in), 2 GND (power), 3 VCC (power), 4 RX (out), 5 EN (in), 6 CANL (io), 7 CANH (io), 8 SLOPE

## MAX3221
designator DD?, comment MAX3221IDB
RS232; Value: MAX3221IDB
footprint TSSOP16
footprint TSSOP16-8MM
pins: 1 ~{EN} (in), 2 C1+, 3 V+, 4 C1-, 5 C2+, 6 C2-, 7 V-, 8 RIN (in), 9 ROUT (out), 10 VALID (out), 11 DIN (in), 12 FON (in), 13 DOUT (out), 14 GND (power), 15 VCC, 16 ~{FOFF} (in)
text: DC/DC; TTL

## MAX3391EEUD
designator D?
Value: MAX3391EEUD
footprint TSSOP14
pins: 1 VL (power), 2 OVL1, 3 OVL2, 4 IVL3, 5 IVL4, 6 hidden, 7 GND (power), 8 OE, 9 hidden, 10 OVH4, 11 OVH3, 12 IVH2, 13 IVH1, 14 VH (power)

## MCP2515-SO
designator DD?, comment MCP2515-I/SO
CAN interface; Value: MCP2515-I/SO
footprint SO18W
footprint DIP18
pins: 1 TXCAN (out), 2 RXCAN (in), 3 CLKOUT (out), 4 ~{TX0RTS} (in), 5 ~{TX1RTS} (in), 6 ~{TX2RTS} (in), 7 OSCO (out), 8 OSCI (in), 9 GND (power), 10 ~{RX1BF} (out), 11 ~{RX0BF} (out), 12 ~{INT} (out), 13 SCK (in), 14 MOSI (in), 15 MISO (out), 16 ~{CS} (in), 17 ~{RESET} (in), 18 VCC (power)
text: CAN

## MCP2515-ST
designator DD?, comment MCP2515-I/ST
CAN interface; Value: MCP2515-I/ST
footprint TSSOP20 (0.65mm pitch)
pins: 1 TXCAN (out), 2 RXCAN (in), 3 CLKOUT (out), 4 ~{TX0RTS} (in), 5 ~{TX1RTS} (in), 7 ~{TX2RTS} (in), 8 OSCO (out), 9 OSCI (in), 10 GND (power), 11 ~{RX1BF} (out), 12 ~{RX0BF} (out), 13 ~{INT} (out), 14 SCK (in), 16 MOSI (in), 17 MISO (out), 18 ~{CS} (in), 19 ~{RESET} (in), 20 VCC (power)
text: CAN

## MLVD201
designator D?  value SN65MLVD201D  (hidden comment: MLVD201)
footprint SO8
pins: 1 RX (out), 2 ~{REN} (in), 3 TEN (in), 4 TX (in), 5 GND (power), 6 D+, 7 D-, 8 VCC (power)
text: LVDS

## MLVD203
designator D?  value SN65MLVD203D  (hidden comment: MLVD203)
footprint SO14
pins: 1 hidden, 2 RX (out), 3 ~{REN} (in), 4 TEN (in), 5 TX (in), 6 GND (power), 7 hidden, 8 hidden, 9 T+, 10 T-, 11 R-, 12 R+, 13 hidden, 14 VCC (power)
text: LVDS

## PDIUSBD12D
designator D?  value PDIUSBD12-D  (hidden comment: PDIUSBD12D)
footprint SO28
pins: 1 D0, 2 D1, 3 D2, 4 D3, 5 GND, 6 D4, 7 D5, 8 D6, 9 D7, 10 ALE, 11 ~{CS}, 12 SUSPEND, 13 CLKOUT, 14 ~{INT}, 15 ~{RD}, 16 ~{WR}, 17 DRQ, 18 ~{DAK}, 19 ~{EOT}, 20 ~{RESET}, 21 ~{GL}, 22 XTAL1, 23 XTAL2, 24 VCC, 25 D-, 26 D+, 27 VOUT, 28 A0
text: TRX

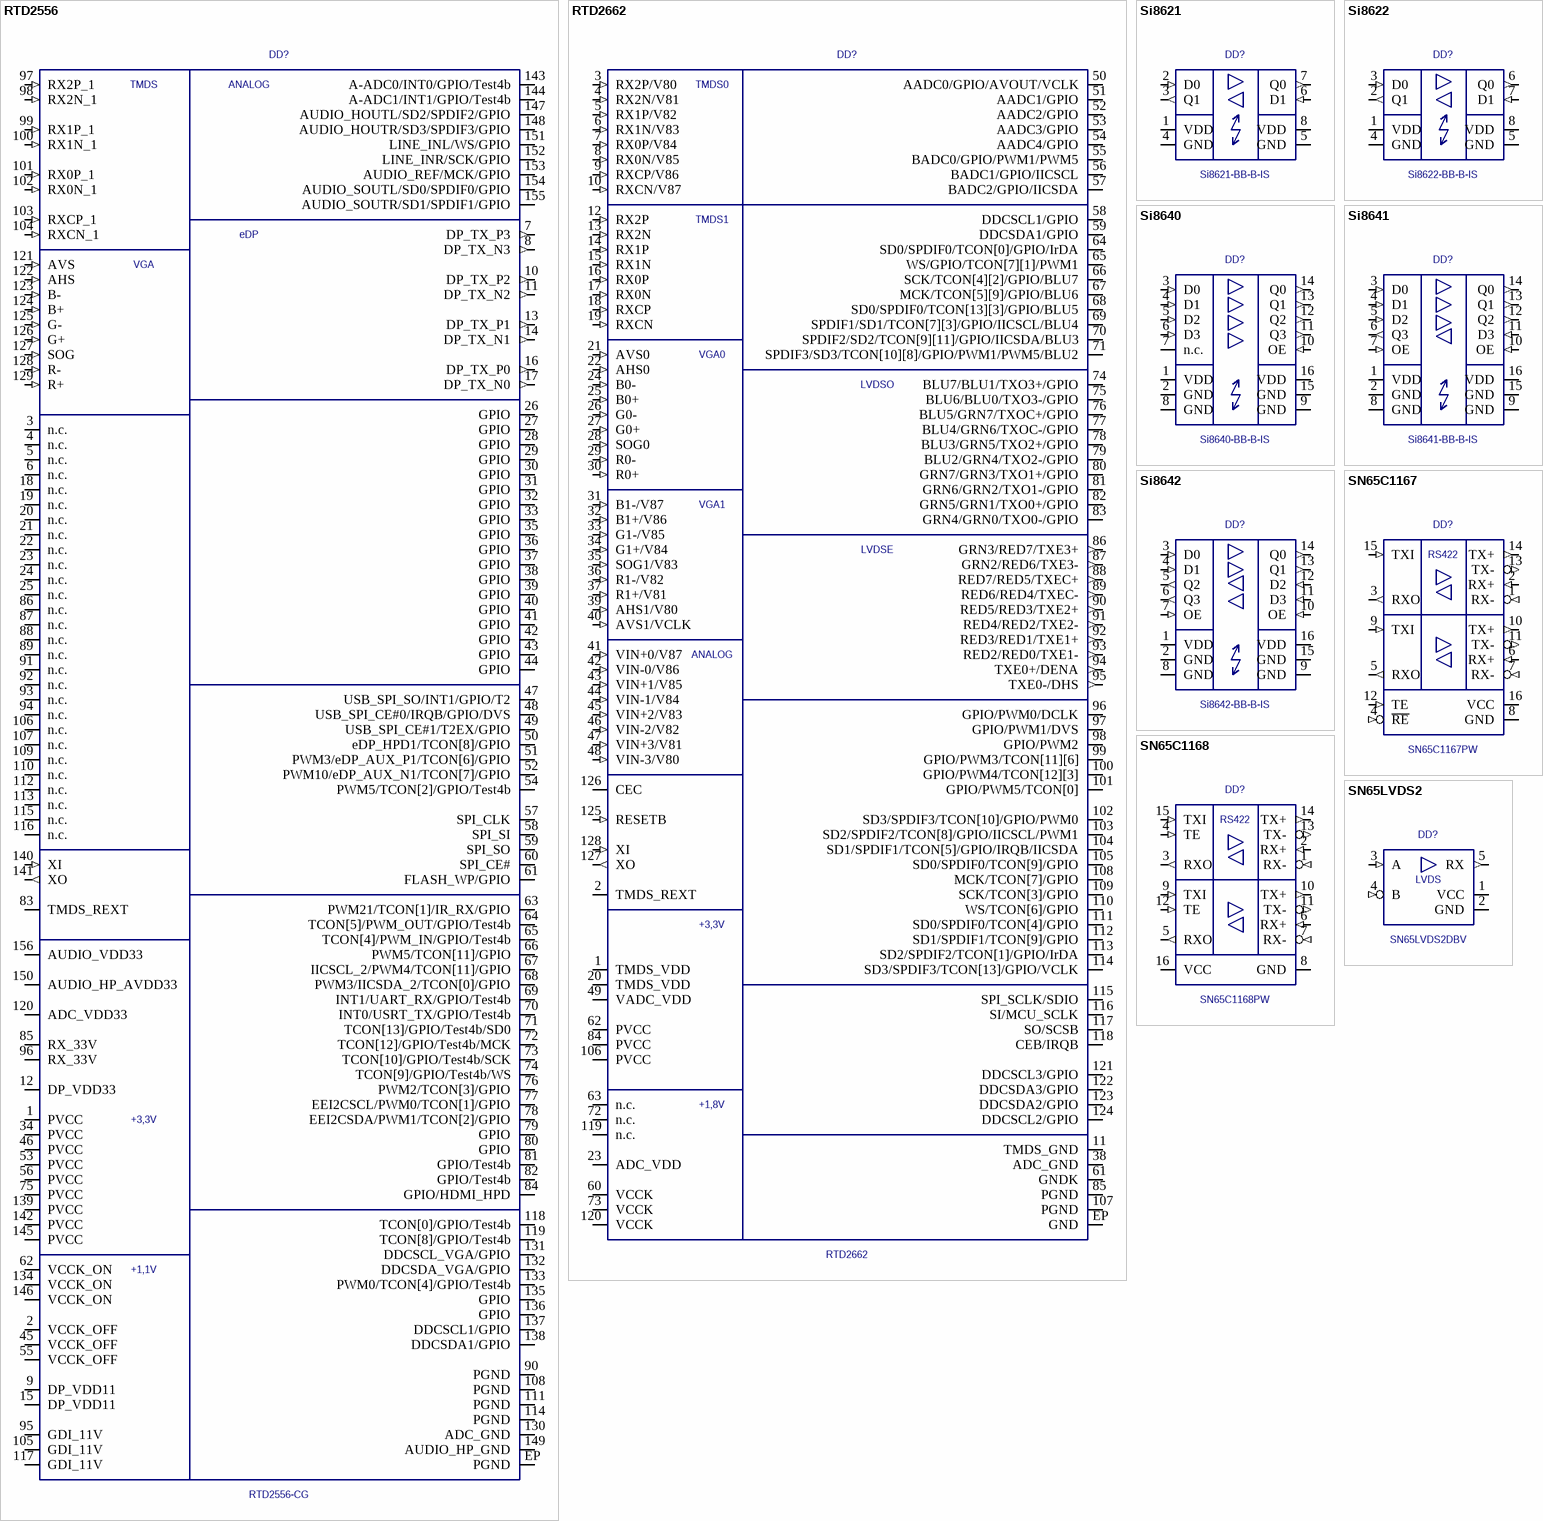
[diagram p3: symbols RTD2556 to SN65LVDS2]

## RTD2556
designator DD?, comment RTD2556-CG
HDMI->eDP scaler; Value: RTD2556-CG
footprint EQFP156-0.4
pins: 1 PVCC (power), 2 VCCK_OFF (power), 3 n.c., 4 n.c., 5 n.c., 6 n.c., 7 DP_TX_P3 (out), 8 DP_TX_N3 (out), 9 DP_VDD11 (power), 10 DP_TX_P2 (out), 11 DP_TX_N2 (out), 12 DP_VDD33 (power), 13 DP_TX_P1 (out), 14 DP_TX_N1 (out), 15 DP_VDD11 (power), 16 DP_TX_P0 (out), 17 DP_TX_N0 (out), 18 n.c., 19 n.c., 20 n.c., 21 n.c., 22 n.c., 23 n.c., 24 n.c., 25 n.c., 26 GPIO (io), 27 GPIO (io), 28 GPIO (io), 29 GPIO (io), 30 GPIO (io), 31 GPIO (io), 32 GPIO (io), 33 GPIO (io), 34 PVCC (power), 35 GPIO (io), 36 GPIO (io), 37 GPIO (io), 38 GPIO (io), 39 GPIO (io), 40 GPIO (io), 41 GPIO (io), 42 GPIO (io), 43 GPIO (io), 44 GPIO (io), 45 VCCK_OFF (power), 46 PVCC (power), 47 USB_SPI_SO/INT1/GPIO/T2 (io), 48 USB_SPI_CE#0/IRQB/GPIO/DVS (io), 49 USB_SPI_CE#1/T2EX/GPIO (io), 50 eDP_HPD1/TCON[8]/GPIO (io), 51 PWM3/eDP_AUX_P1/TCON[6]/GPIO (io), 52 PWM10/eDP_AUX_N1/TCON[7]/GPIO (io), 53 PVCC (power), 54 PWM5/TCON[2]/GPIO/Test4b (io), 55 VCCK_OFF (power), 56 PVCC (power), 57 SPI_CLK (io), 58 SPI_SI (io), 59 SPI_SO (io), 60 SPI_CE# (io), 61 FLASH_WP/GPIO (io), 62 VCCK_ON (power), 63 PWM21/TCON[1]/IR_RX/GPIO (io), 64 TCON[5]/PWM_OUT/GPIO/Test4b (io), 65 TCON[4]/PWM_IN/GPIO/Test4b (io), 66 PWM5/TCON[11]/GPIO (io), 67 IICSCL_2/PWM4/TCON[11]/GPIO (io), 68 PWM3/IICSDA_2/TCON[0]/GPIO (io), 69 INT1/UART_RX/GPIO/Test4b (io), 70 INT0/USRT_TX/GPIO/Test4b (io), 71 TCON[13]/GPIO/Test4b/SD0 (io), 72 TCON[12]/GPIO/Test4b/MCK (io), 73 TCON[10]/GPIO/Test4b/SCK (io), 74 TCON[9]/GPIO/Test4b/WS (io), 75 PVCC (power), 76 PWM2/TCON[3]/GPIO (io), 77 EEI2CSCL/PWM0/TCON[1]/GPIO (io), 78 EEI2CSDA/PWM1/TCON[2]/GPIO (io), 79 GPIO (io), 80 GPIO (io), 81 GPIO/Test4b (io), 82 GPIO/Test4b (io), 83 TMDS_REXT, 84 GPIO/HDMI_HPD (io), 85 RX_33V (power), 86 n.c., 87 n.c., 88 n.c., 89 n.c., 90 PGND (io), 91 n.c., 92 n.c., 93 n.c., 94 n.c., 95 GDI_11V (power), 96 RX_33V (power), 97 RX2P_1 (in), 98 RX2N_1 (in), 99 RX1P_1 (in), 100 RX1N_1 (in), 101 RX0P_1 (in), 102 RX0N_1 (in), 103 RXCP_1 (in), 104 RXCN_1 (in), 105 GDI_11V (power), 106 n.c., 107 n.c., 108 PGND (io), 109 n.c., 110 n.c., 111 PGND (io), 112 n.c., 113 n.c., 114 PGND (io), 115 n.c., 116 n.c., 117 GDI_11V (power), 118 TCON[0]/GPIO/Test4b (io), 119 TCON[8]/GPIO/Test4b (io), 120 ADC_VDD33 (power), 121 AVS (in), 122 AHS (in), 123 B- (in), 124 B+ (in), 125 G- (in), 126 G+ (in), 127 SOG (in), 128 R- (in), 129 R+ (in), 130 ADC_GND (io), 131 DDCSCL_VGA/GPIO (io), 132 DDCSDA_VGA/GPIO (io), 133 PWM0/TCON[4]/GPIO/Test4b (io), 134 VCCK_ON (power), 135 GPIO (io), 136 GPIO (io), 137 DDCSCL1/GPIO (io), 138 DDCSDA1/GPIO (io), 139 PVCC (power), 140 XI (in), 141 XO (out), 142 PVCC (power), 143 A-ADC0/INT0/GPIO/Test4b (io), 144 A-ADC1/INT1/GPIO/Test4b (io), 145 PVCC (power), 146 VCCK_ON (power), 147 AUDIO_HOUTL/SD2/SPDIF2/GPIO (io), 148 AUDIO_HOUTR/SD3/SPDIF3/GPIO (io), 149 AUDIO_HP_GND (io), 150 AUDIO_HP_AVDD33 (power), 151 LINE_INL/WS/GPIO (io), 152 LINE_INR/SCK/GPIO (io), 153 AUDIO_REF/MCK/GPIO (io), 154 AUDIO_SOUTL/SD0/SPDIF0/GPIO (io), 155 AUDIO_SOUTR/SD1/SPDIF1/GPIO (io), 156 AUDIO_VDD33 (power), EP PGND (io)
text: TMDS; ANALOG; eDP; VGA; +3,3V; +1,1V

## RTD2662
designator DD?
HDMI->LVDS scaler; Value: RTD2662
footprint EQFP128-0.5
pins: 1 TMDS_VDD (power), 2 TMDS_REXT, 3 RX2P/V80 (in), 4 RX2N/V81 (in), 5 RX1P/V82 (in), 6 RX1N/V83 (in), 7 RX0P/V84 (in), 8 RX0N/V85 (in), 9 RXCP/V86 (in), 10 RXCN/V87 (in), 11 TMDS_GND (power), 12 RX2P (in), 13 RX2N (in), 14 RX1P (in), 15 RX1N (in), 16 RX0P (in), 17 RX0N (in), 18 RXCP (in), 19 RXCN (in), 20 TMDS_VDD (power), 21 AVS0 (in), 22 AHS0 (in), 23 ADC_VDD (power), 24 B0- (in), 25 B0+ (in), 26 G0- (in), 27 G0+ (in), 28 SOG0 (in), 29 R0- (in), 30 R0+ (in), 31 B1-/V87 (in), 32 B1+/V86 (in), 33 G1-/V85 (in), 34 G1+/V84 (in), 35 SOG1/V83 (in), 36 R1-/V82 (in), 37 R1+/V81 (in), 38 ADC_GND (power), 39 AHS1/V80 (in), 40 AVS1/VCLK (in), 41 VIN+0/V87 (in), 42 VIN-0/V86 (in), 43 VIN+1/V85 (in), 44 VIN-1/V84 (in), 45 VIN+2/V83 (in), 46 VIN-2/V82 (in), 47 VIN+3/V81 (in), 48 VIN-3/V80 (in), 49 VADC_VDD (power), 50 AADC0/GPIO/AVOUT/VCLK (io), 51 AADC1/GPIO (io), 52 AADC2/GPIO (io), 53 AADC3/GPIO (io), 54 AADC4/GPIO (io), 55 BADC0/GPIO/PWM1/PWM5 (io), 56 BADC1/GPIO/IICSCL (io), 57 BADC2/GPIO/IICSDA (io), 58 DDCSCL1/GPIO (io), 59 DDCSDA1/GPIO (io), 60 VCCK (power), 61 GNDK (power), 62 PVCC (power), 63 n.c., 64 SD0/SPDIF0/TCON[0]/GPIO/IrDA (io), 65 WS/GPIO/TCON[7][1]/PWM1 (io), 66 SCK/TCON[4][2]/GPIO/BLU7 (io), 67 MCK/TCON[5][9]/GPIO/BLU6 (io), 68 SD0/SPDIF0/TCON[13][3]/GPIO/BLU5 (io), 69 SPDIF1/SD1/TCON[7][3]/GPIO/IICSCL/BLU4 (io), 70 SPDIF2/SD2/TCON[9][11]/GPIO/IICSDA/BLU3 (io), 71 SPDIF3/SD3/TCON[10][8]/GPIO/PWM1/PWM5/BLU2 (io), 72 n.c., 73 VCCK (power), 74 BLU7/BLU1/TXO3+/GPIO (io), 75 BLU6/BLU0/TXO3-/GPIO (io), 76 BLU5/GRN7/TXOC+/GPIO (io), 77 BLU4/GRN6/TXOC-/GPIO (io), 78 BLU3/GRN5/TXO2+/GPIO (io), 79 BLU2/GRN4/TXO2-/GPIO (io), 80 GRN7/GRN3/TXO1+/GPIO (io), 81 GRN6/GRN2/TXO1-/GPIO (io), 82 GRN5/GRN1/TXO0+/GPIO (io), 83 GRN4/GRN0/TXO0-/GPIO (io), 84 PVCC (power), 85 PGND (power), 86 GRN3/RED7/TXE3+ (out), 87 GRN2/RED6/TXE3- (out), 88 RED7/RED5/TXEC+ (out), 89 RED6/RED4/TXEC- (out), 90 RED5/RED3/TXE2+ (out), 91 RED4/RED2/TXE2- (out), 92 RED3/RED1/TXE1+ (out), 93 RED2/RED0/TXE1- (out), 94 TXE0+/DENA (out), 95 TXE0-/DHS (out), 96 GPIO/PWM0/DCLK (io), 97 GPIO/PWM1/DVS (io), 98 GPIO/PWM2 (io), 99 GPIO/PWM3/TCON[11][6] (io), 100 GPIO/PWM4/TCON[12][3] (io), 101 GPIO/PWM5/TCON[0] (io), 102 SD3/SPDIF3/TCON[10]/GPIO/PWM0 (io), 103 SD2/SPDIF2/TCON[8]/GPIO/IICSCL/PWM1 (io), 104 SD1/SPDIF1/TCON[5]/GPIO/IRQB/IICSDA (io), 105 SD0/SPDIF0/TCON[9]/GPIO (io), 106 PVCC (power), 107 PGND (power), 108 MCK/TCON[7]/GPIO (io), 109 SCK/TCON[3]/GPIO (io), 110 WS/TCON[6]/GPIO (io), 111 SD0/SPDIF0/TCON[4]/GPIO (io), 112 SD1/SPDIF1/TCON[9]/GPIO (io), 113 SD2/SPDIF2/TCON[1]/GPIO/IrDA (io), 114 SD3/SPDIF3/TCON[13]/GPIO/VCLK (io), 115 SPI_SCLK/SDIO (io), 116 SI/MCU_SCLK (io), 117 SO/SCSB (io), 118 CEB/IRQB (io), 119 n.c., 120 VCCK (power), 121 DDCSCL3/GPIO (io), 122 DDCSDA3/GPIO (io), 123 DDCSDA2/GPIO (io), 124 DDCSCL2/GPIO (io), 125 RESETB (in), 126 CEC (io), 127 XO (out), 128 XI (in), EP GND (power)
text: TMDS0; TMDS1; VGA0; LVDSO; VGA1; LVDSE; ANALOG; +3,3V; +1,8V

## Si8621
designator DD?, comment Si8621-BB-B-IS
Isolator 1+1; Value: Si8621-BB-B-IS
footprint SO8
footprint SO8W
pins: 1 VDD (power), 2 D0 (in), 3 Q1 (out), 4 GND (power), 5 GND (power), 6 D1 (in), 7 Q0 (out), 8 VDD (power)

## Si8622
designator DD?, comment Si8622-BB-B-IS
Isolator 1+1; Value: Si8622-BB-B-IS
footprint SO8
footprint SO8W
pins: 1 VDD (power), 2 Q1 (out), 3 D0 (in), 4 GND (power), 5 GND (power), 6 Q0 (out), 7 D1 (in), 8 VDD (power)

## Si8640
designator DD?, comment Si8640-BB-B-IS
Isolator 4+0; Value: Si8640-BB-B-IS
footprint SO16W
footprint SO16
pins: 1 VDD (power), 2 GND (power), 3 D0 (in), 4 D1 (in), 5 D2 (in), 6 D3 (in), 7 n.c., 8 GND (power), 9 GND (power), 10 OE (in), 11 Q3 (out), 12 Q2 (out), 13 Q1 (out), 14 Q0 (out), 15 GND (power), 16 VDD (power)

## Si8641
designator DD?, comment Si8641-BB-B-IS
Isolator 3+1; Value: Si8641-BB-B-IS
footprint SO16W
footprint SO16
pins: 1 VDD (power), 2 GND (power), 3 D0 (in), 4 D1 (in), 5 D2 (in), 6 Q3 (out), 7 OE (in), 8 GND (power), 9 GND (power), 10 OE (in), 11 D3 (in), 12 Q2 (out), 13 Q1 (out), 14 Q0 (out), 15 GND (power), 16 VDD (power)

## Si8642
designator DD?, comment Si8642-BB-B-IS
Isolator 2+2; Value: Si8642-BB-B-IS
footprint SO16W
footprint SO16
pins: 1 VDD (power), 2 GND (power), 3 D0 (in), 4 D1 (in), 5 Q2 (out), 6 Q3 (out), 7 OE (in), 8 GND (power), 9 GND (power), 10 OE (in), 11 D3 (in), 12 D2 (in), 13 Q1 (out), 14 Q0 (out), 15 GND (power), 16 VDD (power)

## SN65C1167
designator DD?, comment SN65C1167PW
RS422x2; Value: SN65C1167PW
footprint DIP16
footprint SO16 (6mm wide)
footprint TSSOP16 (0.65mm pitch)
footprint TSSOP16-8MM (0.65mm pitch)
pins: 1 RX- (in), 2 RX+ (in), 3 RXO (out), 4 ~{RE} (in), 5 RXO (out), 6 RX+ (in), 7 RX- (in), 8 GND (power), 9 TXI (in), 10 TX+ (out), 11 TX- (out), 12 TE (in), 13 TX- (out), 14 TX+ (out), 15 TXI (in), 16 VCC (power)
text: RS422

## SN65C1168
designator DD?, comment SN65C1168PW
RS422x2; Value: SN65C1168PW
footprint DIP16
footprint SO16 (6mm wide)
footprint TSSOP16 (0.65mm pitch)
footprint TSSOP16-8MM (0.65mm pitch)
pins: 1 RX- (in), 2 RX+ (in), 3 RXO (out), 4 TE (in), 5 RXO (out), 6 RX+ (in), 7 RX- (in), 8 GND (power), 9 TXI (in), 10 TX+ (out), 11 TX- (out), 12 TE (in), 13 TX- (out), 14 TX+ (out), 15 TXI (in), 16 VCC (power)
text: RS422

## SN65LVDS2
designator DD?, comment SN65LVDS2DBV
LVDS RX; Value: SN65LVDS2DBV
footprint SOT-23-5 (0.95mm pitch)
pins: 1 VCC (power), 2 GND (power), 3 A (in), 4 B (in), 5 RX (out)
text: LVDS

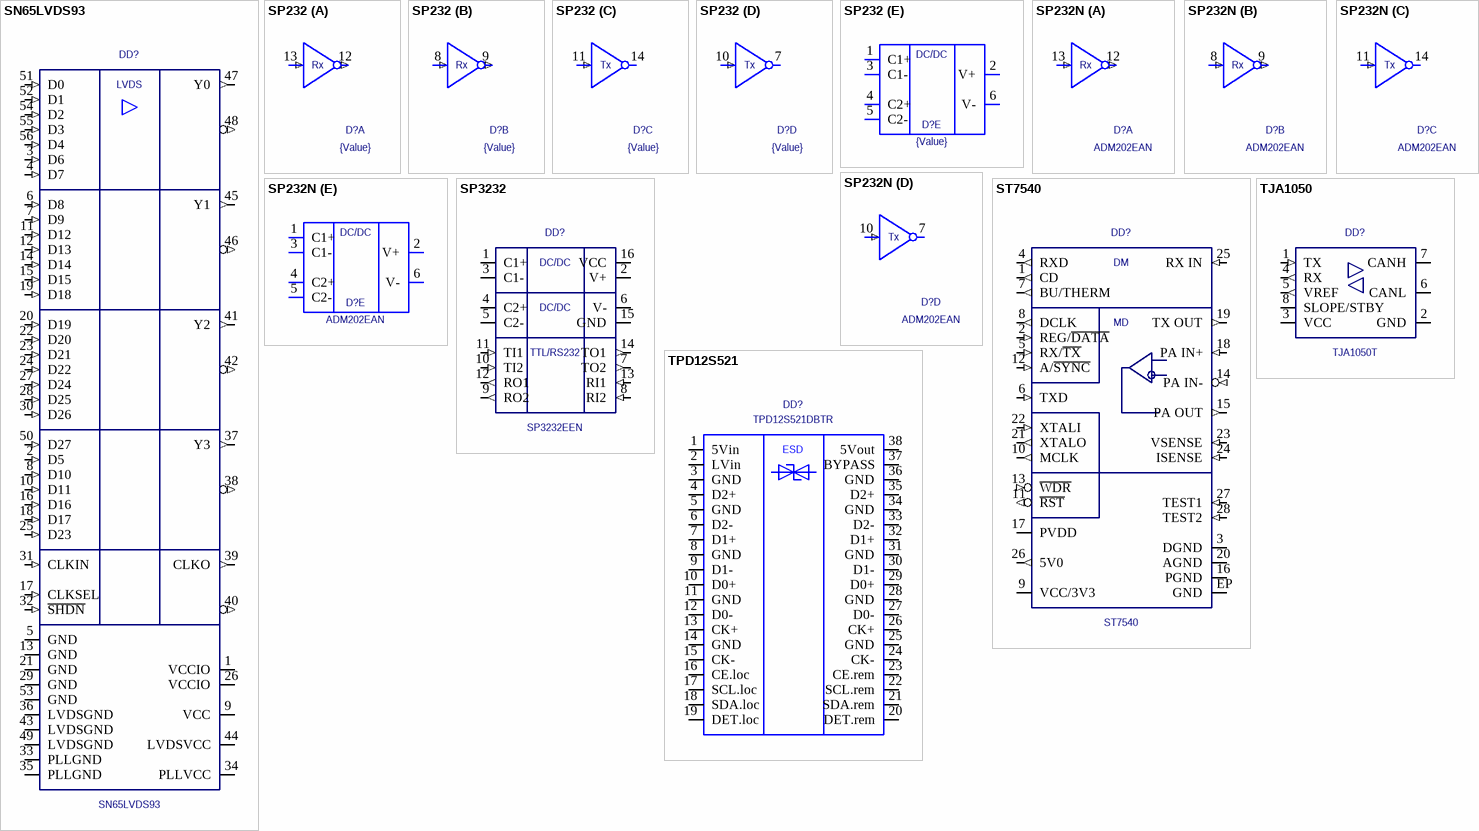
[diagram p4: symbols SN65LVDS93 to TPD12S521]

## SN65LVDS93
designator DD?
LVDS video transmitter; Value: SN65LVDS93
footprint TSSOP56-8mm
pins: 1 VCCIO (power), 2 D5 (in), 3 D6 (in), 4 D7 (in), 5 GND (power), 6 D8 (in), 7 D9 (in), 8 D10 (in), 9 VCC (power), 10 D11 (in), 11 D12 (in), 12 D13 (in), 13 GND (power), 14 D14 (in), 15 D15 (in), 16 D16 (in), 17 CLKSEL (in), 18 D17 (in), 19 D18 (in), 20 D19 (in), 21 GND (power), 22 D20 (in), 23 D21 (in), 24 D22 (in), 25 D23 (in), 26 VCCIO (power), 27 D24 (in), 28 D25 (in), 29 GND (power), 30 D26 (in), 31 CLKIN (in), 32 ~{SHDN} (in), 33 PLLGND (power), 34 PLLVCC (power), 35 PLLGND (power), 36 LVDSGND (power), 37 Y3 (out), 38 Y3M (out), 39 CLKO (out), 40 CLKOM (out), 41 Y2 (out), 42 Y2M (out), 43 LVDSGND (power), 44 LVDSVCC (power), 45 Y1 (out), 46 Y1M (out), 47 Y0 (out), 48 Y0M (out), 49 LVDSGND (power), 50 D27 (in), 51 D0 (in), 52 D1 (in), 53 GND (power), 54 D2 (in), 55 D3 (in), 56 D4 (in)
text: LVDS

## SP232
designator D?  value {Value}  (hidden comment: SP232)
footprint SO16
pins on every part: 15 GND (power) hidden, 16 VCC (power) hidden
part A pins: 12 ROUT (out), 13 RIN (in)
part B pins: 8 RIN (in), 9 ROUT (out)
part C pins: 11 TIN (in), 14 TOUT (out)
part D pins: 7 TOUT (out), 10 TIN (in)
part E pins: 1 C1+ (io), 2 V+ (io), 3 C1- (io), 4 C2+ (io), 5 C2- (io), 6 V- (io)
part A text: Rx
part B text: Rx
part C text: Tx
part D text: Tx
part E text: DC/DC

## SP232N
designator D?  value ADM202EAN  (hidden comment: SP232N)
footprint DIP16
pins on every part: 15 GND (power) hidden, 16 VCC (power) hidden
part A pins: 12 ROUT (out), 13 RIN (in)
part B pins: 8 RIN (in), 9 ROUT (out)
part C pins: 11 TIN (in), 14 TOUT (out)
part D pins: 7 TOUT (out), 10 TIN (in)
part E pins: 1 C1+ (io), 2 V+ (io), 3 C1- (io), 4 C2+ (io), 5 C2- (io), 6 V- (io)
part A text: Rx
part B text: Rx
part C text: Tx
part D text: Tx
part E text: DC/DC

## SP3232
designator DD?, comment SP3232EEN
RS232 2tx 2rx; Value: SP3232EEN
footprint SO16 (6mm wide)
footprint TSSOP16 (0.65mm pitch)
pins: 1 C1+, 2 V+ (power), 3 C1-, 4 C2+, 5 C2-, 6 V- (power), 7 TO2 (out), 8 RI2 (in), 9 RO2 (out), 10 TI2 (in), 11 TI1 (in), 12 RO1 (out), 13 RI1 (in), 14 TO1 (out), 15 GND (power), 16 VCC (power)
text: DC/DC; TTL/RS232

## ST7540
designator DD?
PLC modem; Value: ST7540
footprint TSSOP28E-6.4mm (0.65mm pitch)
pins: 1 CD (out), 2 REG/~{DATA} (in), 3 DGND (power), 4 RXD (out), 5 RX/~{TX} (in), 6 TXD (in), 7 BU/THERM (out), 8 DCLK (out), 9 VCC/3V3 (power), 10 MCLK (out), 11 ~{RST} (out), 12 A/~{SYNC} (in), 13 ~{WDR} (in), 14 PA IN- (in), 15 PA OUT (out), 16 PGND (power), 17 PVDD (power), 18 PA IN+ (in), 19 TX OUT (out), 20 AGND (power), 21 XTALO (out), 22 XTALI (in), 23 VSENSE (in), 24 ISENSE (in), 25 RX IN (in), 26 5V0 (out), 27 TEST1 (in), 28 TEST2 (in), EP GND (power)
text: DM; MD

## TJA1050
designator DD?, comment TJA1050T
CAN tranceiver; Value: TJA1050T
footprint SO8
pins: 1 TX (in), 2 GND (power), 3 VCC (power), 4 RX (out), 5 VREF (out), 6 CANL (io), 7 CANH (io), 8 SLOPE/STBY

## TPD12S521
designator DD?, comment TPD12S521DBTR
Value: TPD12S521DBTR
footprint TDFP38
pins: 1 5Vin, 2 LVin, 3 GND, 4 D2+, 5 GND, 6 D2-, 7 D1+, 8 GND, 9 D1-, 10 D0+, 11 GND, 12 D0-, 13 CK+, 14 GND, 15 CK-, 16 CE.loc, 17 SCL.loc, 18 SDA.loc, 19 DET.loc, 20 DET.rem, 21 SDA.rem, 22 SCL.rem, 23 CE.rem, 24 CK-, 25 GND, 26 CK+, 27 D0-, 28 GND, 29 D0+, 30 D1-, 31 GND, 32 D1+, 33 D2-, 34 GND, 35 D2+, 36 GND, 37 BYPASS, 38 5Vout
text: ESD